# EAGLE library part LTC144* (library OSSI)
LTC1440/LTC1441/LTC1442 Ultralow Power Single/Dual Comparator with Reference
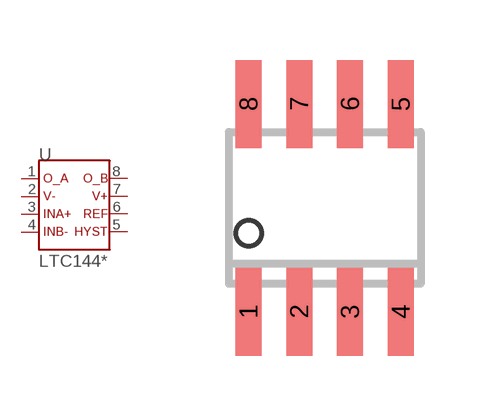
[diagram p42: symbol with the pads of SO8; footprint SO8]

Designator prefix U

## LTC1442  [SO8]
1  P$1
2  P$2
3  P$3
4  P$4
5  P$5
6  P$6
7  P$7
8  P$8

## Footprint SO8 (pad centres in mm)
smd 0.65 x 2.2: 1 -1.905,-2.6; 2 -0.635,-2.6; 3 0.635,-2.6; 4 1.905,-2.6; 5 1.905,2.6; 6 0.635,2.6; 7 -0.635,2.6; 8 -1.905,2.6